# Altium footprint library Leon.PcbLib: 11 footprints
Each footprint in its own frame and in the unit in brackets; x right, y up, seen from the top. Pads: shape width x height; smd on the part's side, far side on the other; paste and mask are expansions set on the pad; w line width, h text height; cw(c..) or ccw(c..) is an arc to the next point about the centre after c.
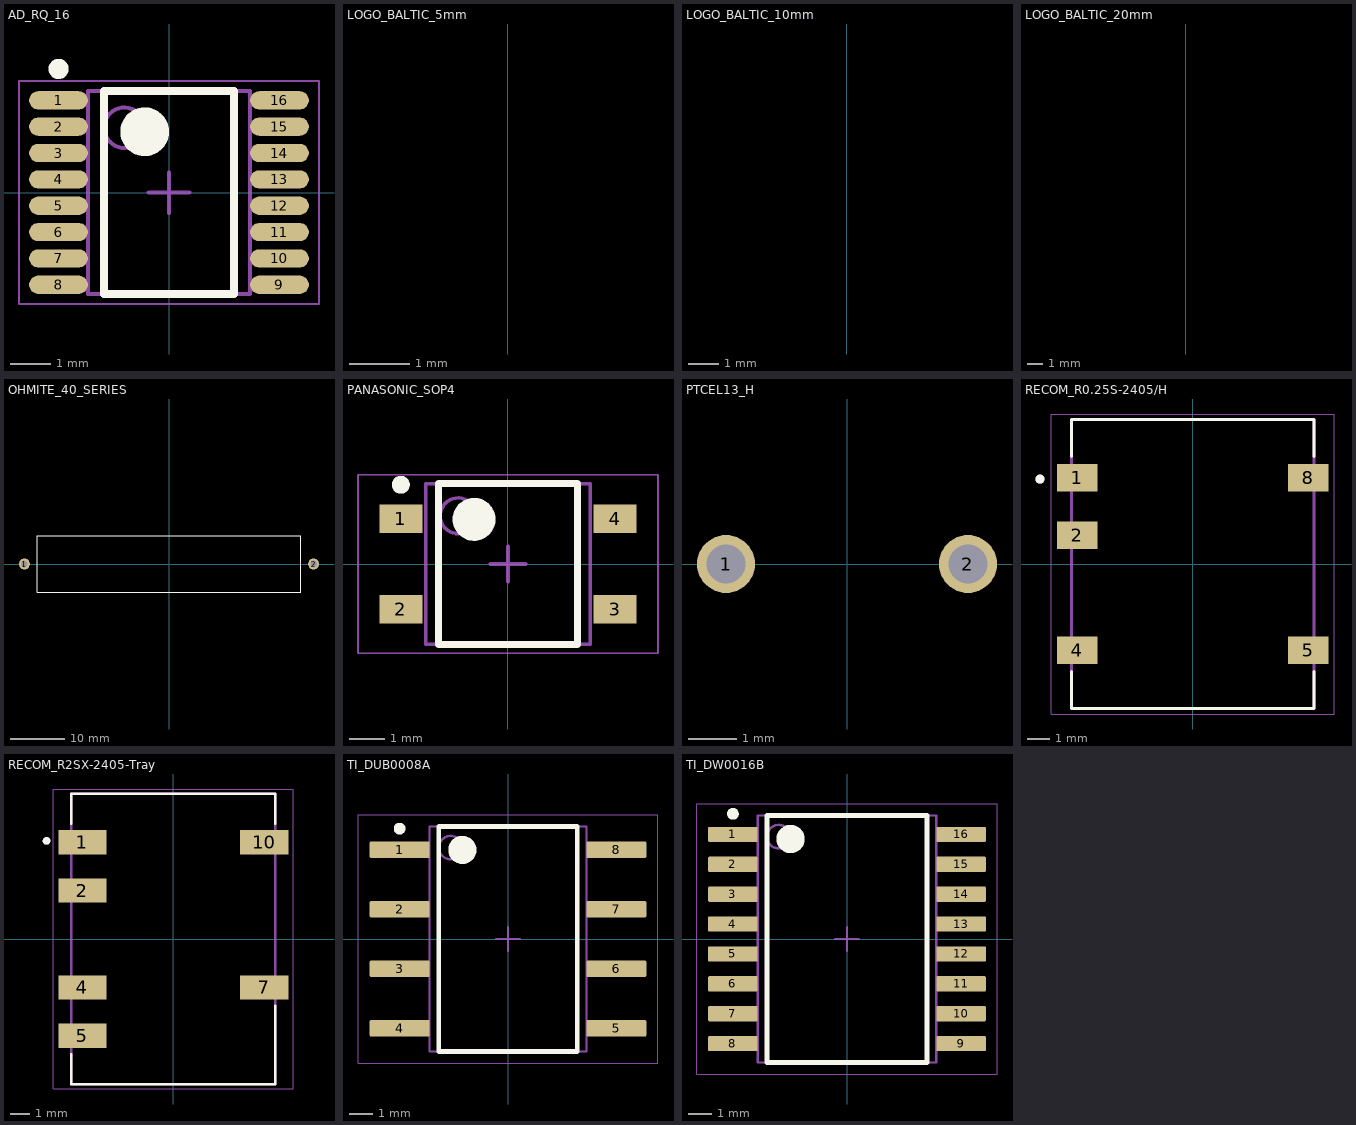
[diagram p0: the footprints below, top view; thin cyan lines are the x and y axes]

## AD_RQ_16 [mm]
height 1.75
pads (16):
  oval 1.45x0.45 smd: 1(-2.725,2.275) 2(-2.725,1.625) 3(-2.725,0.975) 4(-2.725,0.325) 5(-2.725,-0.325) 6(-2.725,-0.975) 7(-2.725,-1.625) 8(-2.725,-2.275) 9(2.725,-2.275) 10(2.725,-1.625) 11(2.725,-0.975) 12(2.725,-0.325) 13(2.725,0.325) 14(2.725,0.975) 15(2.725,1.625) 16(2.725,2.275)
Top Overlay:
  circle w0.6: c-0.6,1.5 r0.3
  circle w0.25: c-2.725,3.05 r0.125
  lines w0.2: -1.6,-2.5 1.6,-2.5 1.6,2.5 -1.6,2.5 -1.6,-2.5
Mechanical 13:
  circle w0.1: c-1.1,1.6 r0.5
  lines w0.1: -2,-2.5 2,-2.5 2,2.5 -2,2.5 -2,-2.5
Mechanical 15:
  lines w0.05: -3.7,-2.75 3.7,-2.75 3.7,2.75 -3.7,2.75 -3.7,-2.75
  lines w0.1: -0.5,0 0.5,0 ; 0,-0.5 0,0.5
3D body "SOP127P600-8N.step": height 1.75, standoff 0, extent -3,-2.5 3,2.5

## LOGO_BALTIC_5mm [mm]
Top Overlay:
  text "B" at -2.499,2.499 h5

## LOGO_BALTIC_10mm [mm]
Top Overlay:
  text "B" at -4.999,4.999 h10

## LOGO_BALTIC_20mm [mm]
Top Overlay:
  text "B" at -9.999,9.999 h20

## OHMITE_40_SERIES [mm] "Ohmicone ® Silicone-Ceramic Conformal  Axial Terminal Wirewound  1% and 5% Tolerance Standard"
height 10.3
pads (2):
  round 2 hole 1.2: 1(-26.5,0) 2(26.5,0)
Top Overlay:
  lines w0.2: -24.15,-5.15 -24.15,5.15 24.15,5.15 24.15,-5.15 -24.15,-5.15
3D body: height 10.3, standoff 0, extent -24.15,-5.15 24.15,5.15

## PANASONIC_SOP4 [mm]
height 2.2
pads (4):
  rect 1.2x0.8 smd: 1(-3,1.27) 2(-3,-1.27) 3(3,-1.27) 4(3,1.27)
Top Overlay:
  circle w0.6: c-0.95,1.25 r0.3
  circle w0.25: c-3,2.22 r0.125
  lines w0.2: -1.95,-2.25 1.95,-2.25 1.95,2.25 -1.95,2.25 -1.95,-2.25
Mechanical 13:
  circle w0.1: c-1.4,1.35 r0.5
  lines w0.1: -2.3,-2.25 2.3,-2.25 2.3,2.25 -2.3,2.25 -2.3,-2.25
Mechanical 15:
  lines w0.05: -4.2,-2.5 4.2,-2.5 4.2,2.5 -4.2,2.5 -4.2,-2.5
  lines w0.1: -0.5,0 0.5,0 ; 0,-0.5 0,0.5
3D body "PANASONIC_SOP4.step": height 2.2, standoff 0, extent -3.4,-2.25 3.4,2.25

## PTCEL13_H [mm] "Vishay PTCEL13 package horizontal"
height 17
pads (2):
  round 1.2 hole 0.8: 1(-2.5,0) 2(2.5,0)
3D body "PTCEL13R_H.STEP": height 6.6, standoff -1.7, extent -6.15,-16.5 6.15,0.3

## RECOM_R0.25S-2405/H [mm]
pads (5):
  rect 1.8x1.2 smd: 1(-5.1,3.81) 2(-5.1,1.27) 4(-5.1,-3.81) 5(5.1,-3.81) 8(5.1,3.81)
Top Overlay:
  circle w0.2: c-6.75,3.75 r0.1
  lines w0.127: -5.35,-4.74 -5.35,-6.375 5.35,-6.375 5.35,-4.74 ; -5.35,4.74 -5.35,6.375 5.35,6.375 5.35,4.74
Mechanical 13:
  circle w0.2: c-6.75,3.75 r0.1
  lines w0.127: -5.35,-6.375 5.35,-6.375 5.35,6.375 -5.35,6.375 -5.35,-6.375
Mechanical 15:
  lines w0.05: -6.25,-6.625 6.25,-6.625 6.25,6.625 -6.25,6.625 -6.25,-6.625
3D body "R0.25S-2405-H--3DModel-STEP-1.STEP": height 6.95, standoff 0, extent -5.55,-6.375 5.55,6.375

## RECOM_R2SX-2405-Tray [mm]
pads (6):
  rect 2.54x1.27 smd: 1(-4.765,5.08) 2(-4.765,2.54) 4(-4.765,-2.54) 5(-4.765,-5.08) 7(4.765,-2.54) 10(4.765,5.08)
Top Overlay:
  circle w0.2: c-6.65,5.15 r0.1
  lines w0.127: -5.35,-6.05 -5.35,-7.62 5.35,-7.62 5.35,-3.51 ; -5.35,6.05 -5.35,7.62 5.35,7.62 5.35,6.05
Mechanical 13:
  circle w0.2: c-6.65,5.15 r0.1
  lines w0.127: -5.35,-7.62 -5.35,7.62 5.35,7.62 5.35,-7.62 -5.35,-7.62
Mechanical 15:
  lines w0.05: -6.3,-7.87 -6.3,7.87 6.3,7.87 6.3,-7.87 -6.3,-7.87
3D body "R2SX-2405-TRAY--3DModel-STEP-1.STEP": height 7.55, standoff 0, extent -5.55,-7.67 5.55,7.67

## TI_DUB0008A [mm] "SOP, 8-Leads, Body 6.7x9.6mm, Pitch 2.54mm, IPC Low Density"
height 4.85
pads (8):
  rrect14% 2.55x0.7 smd: 1(-4.625,3.81) 2(-4.625,1.27) 3(-4.625,-1.27) 4(-4.625,-3.81) 5(4.625,-3.81) 6(4.625,-1.27) 7(4.625,1.27) 8(4.625,3.81)
Top Overlay:
  circle w0.6: c-1.95,3.8 r0.3
  circle w0.25: c-4.625,4.71 r0.125
  lines w0.2: -2.95,-4.8 2.95,-4.8 2.95,4.8 -2.95,4.8 -2.95,-4.8
Mechanical 1:
  text ".Designator" at -2.286,-0.254 h1
Mechanical 13:
  circle w0.1: c-2.45,3.9 r0.5
  lines w0.1: -3.35,-4.8 3.35,-4.8 3.35,4.8 -3.35,4.8 -3.35,-4.8
Mechanical 15:
  lines w0.05: -6.4,-5.3 6.4,-5.3 6.4,5.3 -6.4,5.3 -6.4,-5.3
  lines w0.1: -0.5,0 0.5,0 ; 0,-0.5 0,0.5
3D body "DUB0008A.stp": height 4.85, standoff 0, extent -5.242,-4.75 5.242,4.75

## TI_DW0016B [mm] "SOIC, 16-Leads, Body 10.5x7.6mm, Pitch 1.27mm, IPC Low Density"
height 2.65
pads (16):
  rrect15% 2.1x0.65 smd: 1(-4.85,4.445) 2(-4.85,3.175) 3(-4.85,1.905) 4(-4.85,0.635) 5(-4.85,-0.635) 6(-4.85,-1.905) 7(-4.85,-3.175) 8(-4.85,-4.445) 9(4.85,-4.445) 10(4.85,-3.175) 11(4.85,-1.905) 12(4.85,-0.635) 13(4.85,0.635) 14(4.85,1.905) 15(4.85,3.175) 16(4.85,4.445)
Top Overlay:
  circle w0.6: c-2.4,4.25 r0.3
  circle w0.25: c-4.85,5.32 r0.125
  lines w0.2: -3.4,-5.25 3.4,-5.25 3.4,5.25 -3.4,5.25 -3.4,-5.25
Mechanical 1:
  text ".Designator" at -2.667,-0.381 h1
Mechanical 13:
  circle w0.1: c-2.9,4.35 r0.5
  lines w0.1: -3.8,-5.25 3.8,-5.25 3.8,5.25 -3.8,5.25 -3.8,-5.25
Mechanical 15:
  lines w0.05: -6.375,-5.75 6.375,-5.75 6.375,5.75 -6.375,5.75 -6.375,-5.75
  lines w0.1: -0.5,0 0.5,0 ; 0,-0.5 0,0.5
3D body "DW0016B.stp": height 2.54, standoff -0.04, extent -5.167,-5.15 5.168,5.15